# Altium schematic symbol library 74HC21D_NAND_GATE.SchLib: 1 symbol
Pins are listed as number, name and electrical type; pins without a type are passive.

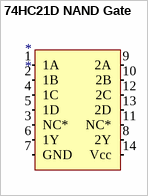
[diagram p0: symbol 74HC21D NAND Gate]

## 74HC21D NAND Gate
designator *
pins: 1 1A (in), 2 1B (in), 3 NC* (in), 4 1C (in), 5 1D (in), 6 1Y (out), 7 GND (in), 8 2Y (out), 9 2A (in), 10 2B (in), 11 NC* (in), 12 2C (in), 13 2D (in), 14 Vcc (power)